# EAGLE library part MAX1771ESA+ (library MAX1771ESA+)
High-Efficiency Step-Up DC-DC Controller Source: Datasheet <http://datasheets.maximintegrated.com/en/ds/MAX1771.pdf>
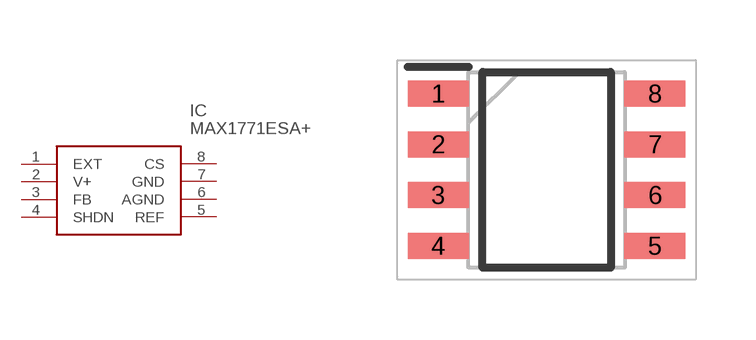
[diagram p0: symbol with the pads of SOIC127P600X175-8N; footprint SOIC127P600X175-8N]

Designator prefix IC

## MAX1771ESA+ (Arrow_Part_Number: MAX1771ESA+; Arrow_Price/Stock: http://uk.rs-online.com/web/p/products/7328800P; Description: High-Efficiency Step-Up DC-DC Controller; Height: 1.75mm; Manufacturer_Name: Maxim Integrated; Manufacturer_Part_Number: MAX1771ESA+; RS_Part_Number: 7328800P; RS_Price/Stock: http://uk.rs-online.com/web/p/products/7328800P)  [SOIC127P600X175-8N]
1  EXT
2  V+
3  FB
4  SHDN
5  REF  in
6  AGND  pwr
7  GND  pwr
8  CS  in

## Footprint SOIC127P600X175-8N (pad centres in mm)
8 SO
smd 1.525 x 0.65: 1 -2.712,1.905; 2 -2.712,0.635; 3 -2.712,-0.635; 4 -2.712,-1.905; 5 2.712,-1.905; 6 2.712,-0.635; 7 2.712,0.635; 8 2.712,1.905